# Altium footprint library SM01.PcbLib: 11 footprints
Each footprint in its own frame and in the unit in brackets; x right, y up, seen from the top. Pads: shape width x height; smd on the part's side, far side on the other; paste and mask are expansions set on the pad; w line width, h text height; cw(c..) or ccw(c..) is an arc to the next point about the centre after c.
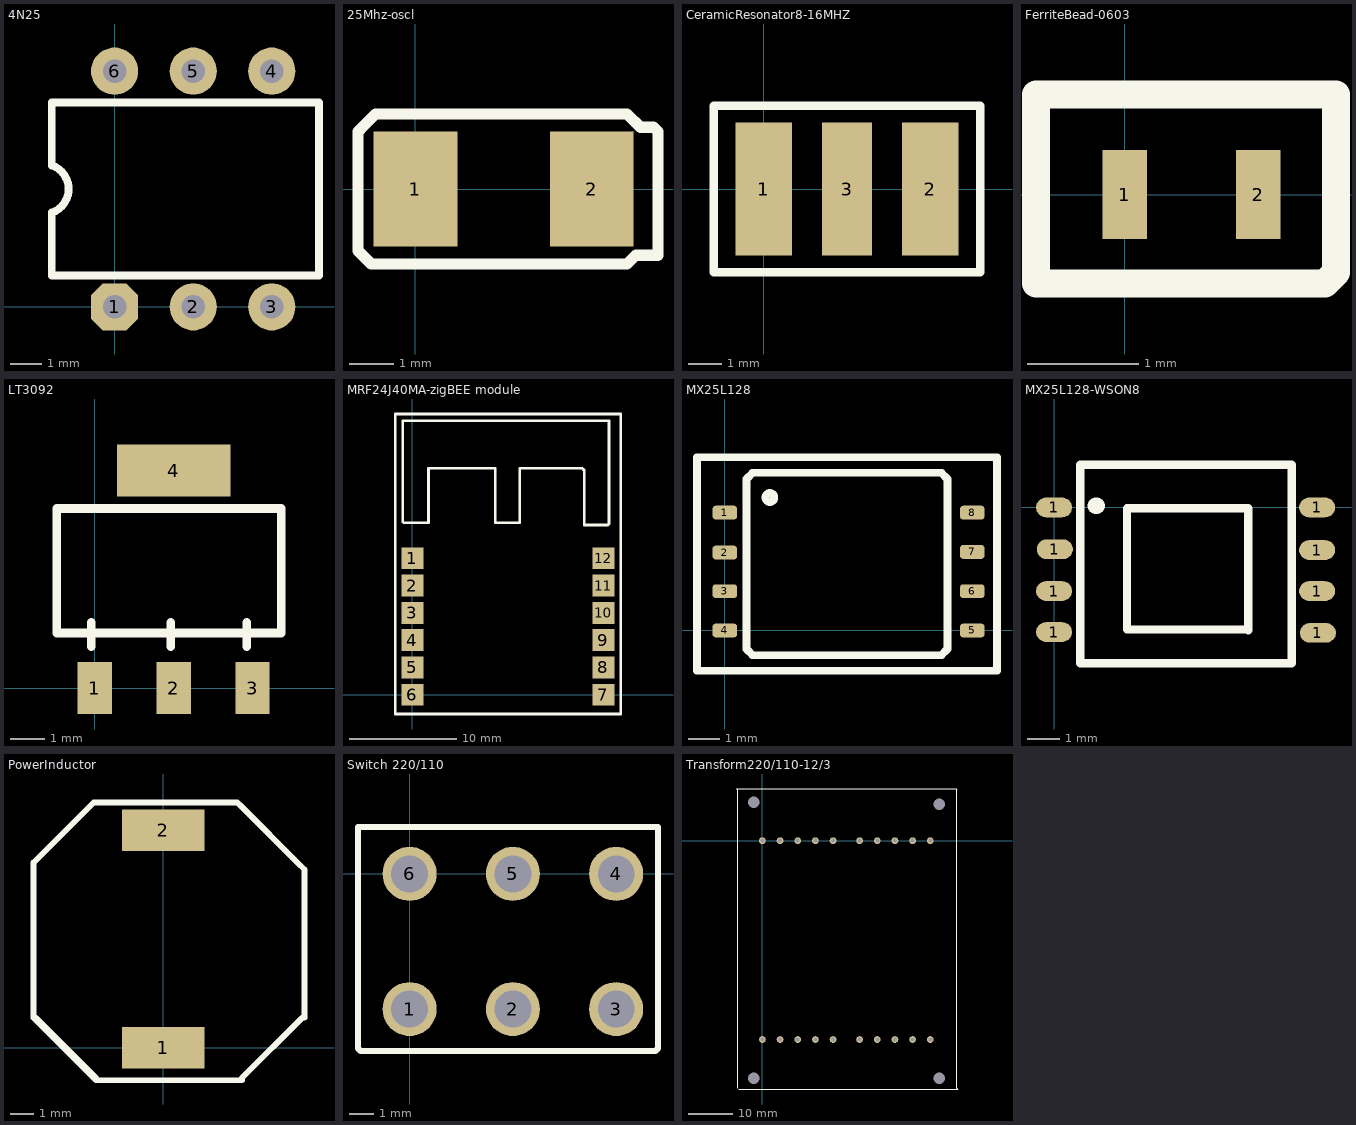
[diagram p0: the footprints below, top view; thin cyan lines are the x and y axes]

## 4N25 [mil]
pads (6):
  oct 60x60 hole 30: 1(0,0)
  round 60 hole 30: 2(100,0) 3(200,0) 4(200,300) 5(100,300) 6(0,300)
Top Overlay:
  lines w10: -80,40 260,40 260,260 -80,260 -80,180 cw(c-90,150) -80,120 -80,40

## 25Mhz-oscl [mm]
pads (2):
  rect 1.9x2.6 smd: 1(0,0) 2(4,0)
Top Overlay:
  lines w0.254: -1.3,-1.4 -1,-1.7 4.8,-1.7 5,-1.5 5.5,-1.5 5.5,1.3 5.4,1.4 5.1,1.4 4.8,1.7 -0.9,1.7 -1.25,1.35 -1.3,1.3 -1.3,-1.4

## CeramicResonator8-16MHZ [mm]
pads (3):
  rect 1.7x4 smd: 1(0,0) 2(5,0)
  rect 1.5x4 smd: 3(2.5,0)
Top Overlay:
  lines w0.254: -1.5,-2.5 6.5,-2.5 6.5,2.5 -1.5,2.5 -1.5,-2.5

## FerriteBead-0603 [mm]
pads (2):
  rect 0.4x0.8 all layers, no hole: 1(0,0) 2(1.2,0)
Top Overlay:
  lines w0.254: 1.9,0.9 1.9,-0.7 1.8,-0.8 -0.8,-0.8 -0.8,-0.7 -0.8,0.9 1.9,0.9 ; 1.9,0.9 1.9,0.9

## LT3092 [mil]
pads (4):
  rect 39x59 all layers, no hole: 1(0,0) 2(90,0) 3(180,0)
  rect 129x59 all layers, no hole: 4(90,248)
Top Overlay:
  lines w10: -3.94,47.24 -3.94,74.8 ; 86.61,47.24 86.61,74.8 ; 173.23,47.24 173.23,74.8 ; -43.31,62.99 -43.31,204.72 212.6,204.72 212.6,62.99 -43.31,62.99

## MRF24J40MA-zigBEE module [mil]
pads (12):
  rect 80x80 smd: 1(0,500) 2(0,400) 3(0,300) 4(0,200) 5(0,100) 6(0,0) 7(700,0) 8(700,100) 9(700,200) 10(700,300) 11(700,400) 12(700,500)
Top Overlay:
  lines w10: 409.45,830.71 555.12,830.71 ; -62.99,-70.87 -62.99,1029.13 763.78,1029.13 763.78,-70.87 -62.99,-70.87 ; -35.43,633.86 -31.5,629.92 59.06,629.92 59.06,830.71 303.15,830.71 303.15,629.92 393.7,629.92 393.7,830.71 622.05,830.71 629.92,822.83 629.92,791.34 629.92,622.05 716.54,622.05 720.47,625.98 720.47,1003.94 -23.62,1003.94 -35.43,1003.94 -35.43,992.13 -35.43,633.86

## MX25L128 [mm] "epprom marcronix"
pads (8):
  rrect50% 0.8x0.45 smd: 1(0,3.81) 2(0,2.52) 3(0,1.27) 4(0,0) 5(8,0) 6(8,1.27) 7(8,2.54) 8(8,3.81)
Top Overlay:
  circle w0.254: c1.459,4.3 r0.141
  lines w0.254: -0.9,-1.3 -0.9,5.6 8.8,5.6 8.8,-1.3 8.4,-1.3 -0.9,-1.3 ; 0.7,-0.6 0.7,4.9 0.9,5.1 7,5.1 7.2,4.9 7.2,-0.6 7,-0.8 0.9,-0.8 0.7,-0.6

## MX25L128-WSON8 [mm]
pads (8):
  oval 1.1x0.6 all layers, no hole: 1(0,-3.8) 1(0,-2.55) 1(0,0) 1(0.025,-1.275) 1(8.025,-2.55) 1(8.025,-1.3) 1(8.025,0) 1(8.05,-3.825)
Top Overlay:
  lines w0.254: 0.8,-4.75 4.625,-4.75 7.25,-4.75 7.25,1.3 0.8,1.3 0.8,-4.75 ; 2.225,-3.725 2.225,-0.025 5.925,-0.025 5.925,-3.75 5.9,-3.725 2.225,-3.725
  lines w0.5: 1.275,0.05 1.3,0.05

## PowerInductor [mm]
pads (2):
  rect 3.56x1.78 all layers, no hole: 1(0,0) 2(0,9.4)
Top Overlay:
  lines w0.254: -5.5,1.3 -2.9,-1.3 ; 3.3,10.5 5.9,7.9 ; 3.4,-1.4 -2.9,-1.4 -5.6,1.3 -5.6,8 ; 3.4,-1.3 6,1.3 ; 6.1,1.3 6.1,7.7 3.2,10.6 -3,10.6 ; -5.6,8 -3,10.6 ; -5.6,8 -3,10.6

## Switch 220/110 [mm]
pads (6):
  round 2.2 hole 1.5: 1(0,-5.5) 2(4.2,-5.5) 3(8.4,-5.5) 4(8.4,0) 5(4.2,0) 6(0,0)
Top Overlay:
  lines w0.254: -2.1,-7.1 -2.1,1.9 10.1,1.9 10.1,-7.1 10,-7.2 -2,-7.2 -2.1,-7.1

## Transform220/110-12/3 [mm]
pads (24):
  round 1.524 hole 2.6: 1(-2,-53.75) 1(-2,8.75) 1(40,-53.75) 1(40,8.25)
  round 1.524 hole 0.9: 1(38,0) 2(34,0) 3(30,0) 4(26,0) 5(22,0) 6(16,0) 7(12,0) 8(8,0) 9(4,0) 10(0,0) 10(38,-45) 11(0,-45) 12(4,-45) 13(8,-45) 14(12,-45) 15(16,-45) 16(22,-45) 17(26,-45) 18(30,-45) 18(34,-45)
Top Overlay:
  lines w0.254: -5.9,11.7 43.9,11.7 44,11.6 44,-56 44.2,-56.2 -5.4,-56.2 ; -5.6,-56 -5.6,11.7